# Altium schematic symbol library ConnectMedical.SchLib: 98 symbols
Pins are listed as number, name and electrical type; pins without a type are passive.

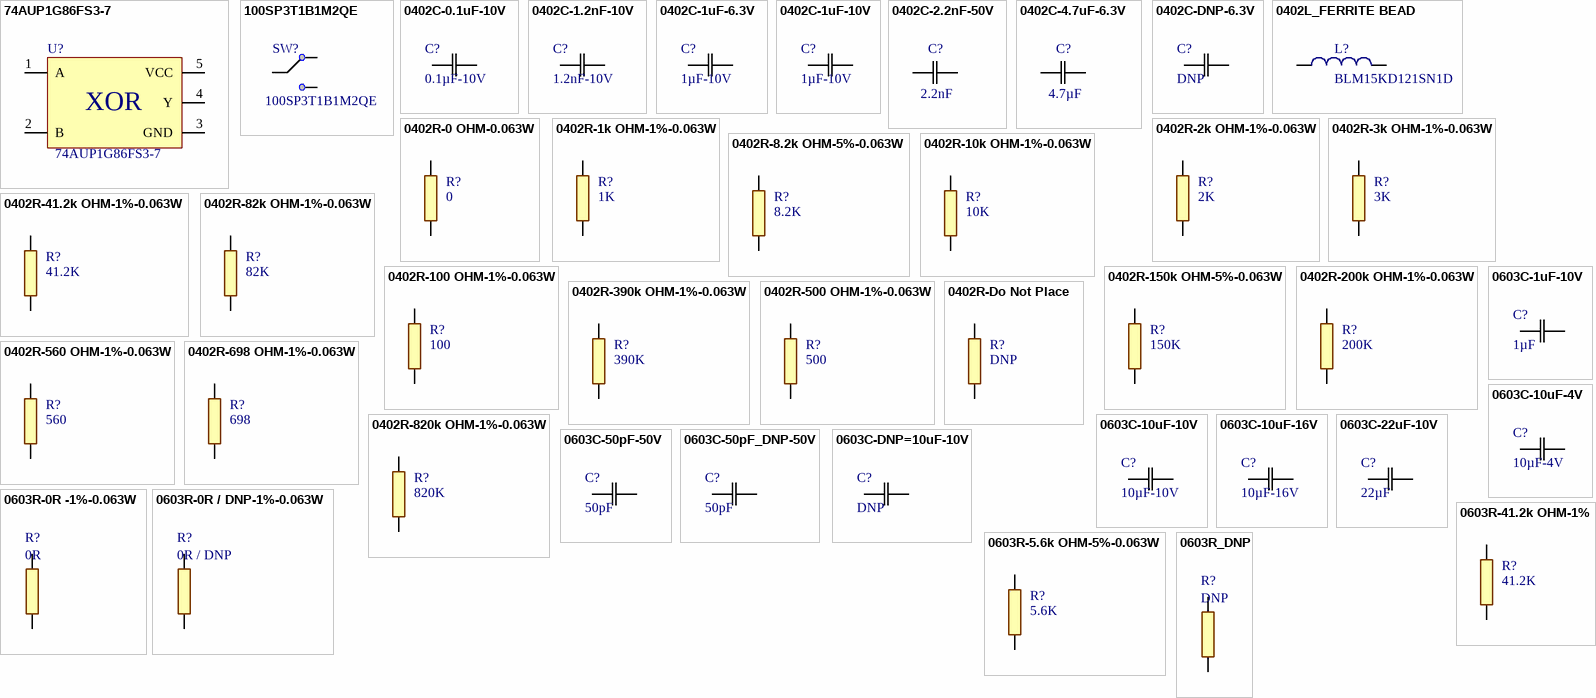
[diagram p0: symbols 74AUP1G86FS3-7 to 0603R_DNP]

## 74AUP1G86FS3-7
designator U?
IC GATE XOR 1CH 2-INP 4-X2DFN; Manufacturer: Diodes Incorporated; Voltage Supply: 0.8 V ~ 3.6 V; Current - Quiescent (Max): 500nA; Logic Level - Low: 0.7 V ~ 0.9 V; Logic Level - High: 1.6 V ~ 2 V; Max Propagation Delay @ V, Max C: 7.1ns @ 3.3V, 30pF; ComponentLink1URL: https://www.diodes.com/assets/Datasheets/74AUP1G86.pdf; ComponentLink1Description: Datasheet; Manufacturer Part Number: 74AUP1G86FS3-7; Digi-Key Part Number: 74AUP1G86FS3-7DICT-ND; Operating Temperature: -40°C ~ 125°C; Package / Case: 4-XFDFN Exposed Pad
footprint 74AUP1G86FS3-7 (IC GATE XOR 1CH, SON, 4-Leads, Body 0.80x0.80mm, Pitch 0.48mm, IPC High Density)
pins: 1 A (power), 2 B, 3 GND, 4 Y, 5 VCC
text: XOR

## 100SP3T1B1M2QE
designator SW?
SWITCH TOGGLE SPDT 5A 120V; Manufacturer: E-Switch; Actuator Type: Standard Round; Actuator Length: 10.41mm; ComponentLink1URL: https://www.e-switch.com/system/asset/product_line/data_sheet/129/100.pdf; ComponentLink1Description: Datasheet; Manufacturer Part Number: 100SP3T1B1M2QE; Operating Temperature: -30°C ~ 85°C; Digi-Key Part Number: 100SP3T1B1M2QE-ND; Termination Style: PC Pin; Panel Cutout Dimensions: 6.35mm; Circuit: SPDT
footprint SWITCH-100SP3T1B1M2QE (SWITCH TOGGLE SPDT)
pins: 1, 2, 3

## 0402C-0.1uF-10V
designator C?, comment 0.1µF-10V
0.1µF ±10% 10V X5R Ceramic Capacitor 0402; Manufacturer Part Number: CC0402KRX5R6BB104; Manufacturer: Yageo; Capacitance: 0.1µF; Digi-Key Part Number: 311-1336-1-ND; PackageReference: 0402; Temperature Coefficient: X5R; Tolerance: 10%; Voltage - Rated: 10V
footprint 0402C_HIGH_DENSITY
pins: 1, 2

## 0402C-1.2nF-10V
designator C?, comment 1.2nF-10V
1.2nF ±10% 10V U2J Ceramic Capacitor 0402; Manufacturer Part Number: GRM1557U1A122JA01D; Manufacturer: Murata Electronics North America; Tolerance: 5%; Capacitance: 1.2nF; Digi-Key Part Number: 490-6272-1-ND; PackageReference: 0402; Temperature Coefficient: U2J; Voltage - Rated: 10V
footprint 0402C_HIGH_DENSITY
pins: 1, 2

## 0402C-1uF-6.3V
designator C?, comment 1µF-10V
1µF ±10% 6.3V X5R Ceramic Capacitor 0402; Manufacturer Part Number: JMK105BJ105KV-F; Manufacturer: Taiyo Yuden; Capacitance: 1µF; Digi-Key Part Number: 587-1231-1-ND; PackageReference: 0402; Temperature Coefficient: X5R; Tolerance: 10%; Voltage - Rated: 6.3V
footprint 0402C-GENERIC (Chip Capacitor, 2-Leads, Body 1.00x0.50mm, IPC Medium Density)
pins: 1, 2

## 0402C-1uF-10V
designator C?, comment 1µF-10V
1µF ±10% 10V X5R Ceramic Capacitor 0402; Manufacturer Part Number: CC0402KRX5R6BB105; Manufacturer: Yageo; Capacitance: 1µF; Digi-Key Part Number: 311-1439-1-ND; PackageReference: 0402; Temperature Coefficient: X5R; Tolerance: 10%; Voltage - Rated: 10V
footprint 0402C_HIGH_DENSITY
pins: 1, 2

## 0402C-2.2nF-50V
designator C?, comment 2.2nF
2.2nF ±10% 50V X5R Ceramic Capacitor 0402; Manufacturer Part Number: GRM155R61H222KA01D; Manufacturer: Murata Electronics North America; Capacitance: 2.2nF; Digi-Key Part Number: 490-8257-1-ND; PackageReference: 0402; Temperature Coefficient: X5R; Tolerance: 10%; Voltage - Rated: 50V
footprint 0402C_HIGH_DENSITY
pins: 1, 2

## 0402C-4.7uF-6.3V
designator C?, comment 4.7µF
4.7µF ±10% 6.3V X5R Ceramic Capacitor 0402; Manufacturer Part Number: C1005X5R0J475K050BC; Manufacturer: TDK Corporation; Capacitance: 4.7µF; Digi-Key Part Number: 445-5947-1-ND; PackageReference: 0402; Temperature Coefficient: X5R; Tolerance: 10%; Voltage - Rated: 6.3V
footprint 0402C_HIGH_DENSITY
pins: 1, 2

## 0402C-DNP-6.3V
designator C?, comment DNP
Temperature Coefficient: X5R; Tolerance: 10%; Voltage - Rated: 6.3V; Capacitance: DNP; PackageReference: 0402
footprint 0402C-GENERIC (Chip Capacitor, 2-Leads, Body 1.00x0.50mm, IPC Medium Density)
pins: 1, 2

## 0402L_FERRITE BEAD
designator L?, comment BLM15KD121SN1D
FERRITE BEAD 120 OHM 0402 1LN; Manufacturer: Murata Electronics North America; Number of Lines: 1; Current Rating (Max): 1.5A; Impedance @ Frequency: 120 Ohm @ 100MHz; DC Resistance (DCR) (Max): 70 mOhm; Filter Type: Signal Line; Digi-Key Part Number: 490-15015-1-ND; Manufacturer Part Number: BLM15KD121SN1D; ComponentLink1Description: Datasheet; ComponentLink1URL: http://www.murata.com/en-us/products/productdata/8796740059166/ENFA0018.pdf; PackageReference: 0402 (1005 Metric)
footprint 0402L_High Speed (SMD EMI Suppression Ferrite  Bead, body 1.0mmx0.5mm)
pins: 1, 2

## 0402R-0 OHM-0.063W
designator R?, comment 0
RES SMD 0.0OHM JUMPER 1/16W 0402; Manufacturer: Yageo; Manufacturer Part Number: RC0402JR-070RL; Resistance (Ohms): 0 Ohm; Power: 0.063W; GENERIC_OK: YES; Digi-Key Part Number: 311-0.0JRCT-ND; PackageReference: 0402; Features: Moisture Resistant
footprint 0402R-GENERIC (0402 RES)
pins: 1, 2

## 0402R-1k OHM-1%-0.063W
designator R?, comment 1K
RES SMD 1kOHM 1% 1/16W 0402; Power: 0.063W; GENERIC_OK: YES; Resistance (Ohms): 1KOhm; Tolerance: 1%; PackageReference: 0402
footprint 0402R-GENERIC (0402 RES)
pins: 1, 2

## 0402R-2k OHM-1%-0.063W
designator R?, comment 2K
RES SMD 2kOHM 1% 1/16W 0402; Manufacturer: Yageo; Manufacturer Part Number: RC0402FR-072KL; Power: 0.063W; GENERIC_OK: YES; Digi-Key Part Number: 311-2KLRCT-ND; Resistance (Ohms): 2KOhm; Tolerance: 1%; PackageReference: 0402; Features: Moisture Resistant
footprint 0402R-GENERIC (0402 RES)
pins: 1, 2

## 0402R-3k OHM-1%-0.063W
designator R?, comment 3K
RES SMD 3kOHM 1% 1/16W 0402; Power: 0.063W; GENERIC_OK: YES; Resistance (Ohms): 3KOhm; Tolerance: 1%; PackageReference: 0402; Features: Moisture Resistant
footprint 0402R-GENERIC (0402 RES)
pins: 1, 2

## 0402R-8.2k OHM-5%-0.063W
designator R?, comment 8.2K
RES SMD 8.2kOHM 5% 1/16W 0402; Manufacturer: Yageo; Manufacturer Part Number: RC0402JR-078K2L; Power: 0.063W; GENERIC_OK: YES; Digi-Key Part Number: 311-8.2KJRCT-ND; Resistance (Ohms): 8.2KOhm; Tolerance: 5%; PackageReference: 0402
footprint 0402R-GENERIC (0402 RES)
pins: 1, 2

## 0402R-10k OHM-1%-0.063W
designator R?, comment 10K
RES SMD 10kOHM 1% 1/16W 0402; Manufacturer: Yageo; Manufacturer Part Number: RC0402FR-0710KL; Power: 0.063W; GENERIC_OK: YES; Digi-Key Part Number: 311-10.0KLRCT-ND; Resistance (Ohms): 10KOhm; Tolerance: 1%; PackageReference: 0402; Features: Moisture Resistant
footprint 0402R-GENERIC (0402 RES)
pins: 1, 2

## 0402R-41.2k OHM-1%-0.063W
designator R?, comment 41.2K
RES SMD 41.2kOHM 1% 1/16W 0402; Manufacturer: Yageo; Manufacturer Part Number: RC0402FR-0741K2L; Power: 0.063W; GENERIC_OK: YES; Digi-Key Part Number: YAG3155CT-ND; Resistance (Ohms): 41.2KOhm; Tolerance: 1%; PackageReference: 0402
footprint 0402R-GENERIC (0402 RES)
pins: 1, 2

## 0402R-82k OHM-1%-0.063W
designator R?, comment 82K
RES SMD 82kOHM 1% 1/16W 0402; Manufacturer: Yageo; Manufacturer Part Number: RC0402FR-0782KL; Power: 0.063W; GENERIC_OK: YES; Digi-Key Part Number: 311-82.0KLRCT-ND; Resistance (Ohms): 82KOhm; Tolerance: 1%; PackageReference: 0402
footprint 0402R-GENERIC (0402 RES)
pins: 1, 2

## 0402R-100 OHM-1%-0.063W
designator R?, comment 100
RES SMD 100OHM 1% 1/16W 0402; Manufacturer: Yageo; Manufacturer Part Number: RC0402FR-07100RL; Power: 0.063W; GENERIC_OK: YES; Digi-Key Part Number: 311-100LRCT-ND; Resistance (Ohms): 100Ohm; Tolerance: 1%; PackageReference: 0402; Features: Moisture Resistant
footprint 0402R-GENERIC (0402 RES)
pins: 1, 2

## 0402R-150k OHM-5%-0.063W
designator R?, comment 150K
RES SMD 150kOHM 5% 1/16W 0402; Manufacturer: Yageo; Manufacturer Part Number: RC0402JR-07150KL; Power: 0.063W; GENERIC_OK: YES; Digi-Key Part Number: 311-150KJRCT-ND; Resistance (Ohms): 150KOhm; Tolerance: 5%; PackageReference: 0402; Features: Moisture Resistant
footprint 0402R-GENERIC (0402 RES)
pins: 1, 2

## 0402R-200k OHM-1%-0.063W
designator R?, comment 200K
RES SMD 200kOHM 1% 1/16W 0402; Manufacturer: Yageo; Manufacturer Part Number: AC0402FR-07200KL; Power: 0.063W; GENERIC_OK: YES; Digi-Key Part Number: YAG3452CT-ND; Resistance (Ohms): 200KOhm; Tolerance: 1%; PackageReference: 0402; Features: Moisture Resistant
footprint 0402R-GENERIC (0402 RES)
pins: 1, 2

## 0402R-390k OHM-1%-0.063W
designator R?, comment 390K
RES SMD 390kOHM 1% 1/16W 0402; Manufacturer: Yageo; Manufacturer Part Number: RC0402FR-07390KL; Power: 0.063W; GENERIC_OK: YES; Digi-Key Part Number: YAG3143CT-ND; Resistance (Ohms): 390KOhm; Tolerance: 1%; PackageReference: 0402; Features: Moisture Resistant
footprint 0402R-GENERIC (0402 RES)
pins: 1, 2

## 0402R-500 OHM-1%-0.063W
designator R?, comment 500
RES SMD 100OHM 1% 1/16W 0402; Resistance (Ohms): 500Ohm; Power: 0.063W; GENERIC_OK: YES; Tolerance: 1%; PackageReference: 0402
footprint 0402R-GENERIC (0402 RES)
pins: 1, 2

## 0402R-560 OHM-1%-0.063W
designator R?, comment 560
RES SMD 560OHM 1% 1/16W 0402; Manufacturer: Samsung Electro-Mechanics America, Inc.; Manufacturer Part Number: RC1005F561CS; Power: 0.063W; GENERIC_OK: YES; Digi-Key Part Number: 1276-3473-1-ND; Resistance (Ohms): 560Ohm; Tolerance: 1%; PackageReference: 0402; Features: Moisture Resistant
footprint 0402R-GENERIC (0402 RES)
pins: 1, 2

## 0402R-698 OHM-1%-0.063W
designator R?, comment 698
RES SMD 698 OHM 1% 1/16W 0402; Manufacturer: Yageo; Manufacturer Part Number: RC0402FR-07698RL; Resistance (Ohms): 698Ohm; Power: 0.063W; GENERIC_OK: YES; Digi-Key Part Number: YAG3215CT-ND; Tolerance: 1%; PackageReference: 0402; Features: Moisture Resistant
footprint 0402R-GENERIC (0402 RES)
pins: 1, 2

## 0402R-820k OHM-1%-0.063W
designator R?, comment 820K
RES SMD 820kOHM 1% 1/16W 0402; Manufacturer: Yageo; Manufacturer Part Number: RC0402FR-07820KL; Power: 0.063W; GENERIC_OK: YES; Digi-Key Part Number: YAG3240CT-ND; Resistance (Ohms): 820KOhm; Tolerance: 1%; PackageReference: 0402
footprint 0402R-GENERIC (0402 RES)
pins: 1, 2

## 0402R-Do Not Place
designator R?, comment DNP
footprint 0402R-GENERIC (0402 RES)
pins: 1, 2

## 0603C-1uF-10V
designator C?, comment 1µF
1µF ±10% 10V X7R Ceramic Capacitor 0603; Manufacturer Part Number: CL10B105KP8NNNC; Manufacturer: Samsung Electro-Mechanics America, Inc.; Capacitance: 1µF; Digi-Key Part Number: 1276-1946-1-ND; PackageReference: 0603; Temperature Coefficient: X7R; Tolerance: 10%; Voltage - Rated: 10V
footprint 0603C-GENERIC
pins: 1, 2

## 0603C-10uF-4V
designator C?, comment 10µF-4V
10µF ±10% 4V X6S Ceramic Capacitor 0603; Manufacturer Part Number: GRM188C80G106KE47D; Manufacturer: Murata Electronics North America; Capacitance: 10µF; Digi-Key Part Number: 490-10469-1-ND; PackageReference: 0603; Temperature Coefficient: X6S; Tolerance: 10%; Voltage - Rated: 4V
footprint 0603C-GENERIC
pins: 1, 2

## 0603C-10uF-10V
designator C?, comment 10µF-10V
10µF ±10% 10V X5R Ceramic Capacitor 0603; Manufacturer Part Number: GRM188R61A106KE69D; Manufacturer: Murata Electronics North America; Capacitance: 10µF; Digi-Key Part Number: 490-10474-1-ND; PackageReference: 0603; Temperature Coefficient: X5R; Tolerance: 10%; Voltage - Rated: 10V
footprint 0603C-GENERIC
pins: 1, 2

## 0603C-10uF-16V
designator C?, comment 10µF-16V
16µF ±10% 16V X5R Ceramic Capacitor 0603; Manufacturer Part Number: GRT188R61C106KE13D; Manufacturer: Murata Electronics North America; Capacitance: 10µF; Digi-Key Part Number: 490-12317-1-ND; PackageReference: 0603; Temperature Coefficient: X5R; Tolerance: 10%; Voltage - Rated: 16V; ClassName: 3D_IGNORE
footprint 0603C_HIGH_DENSITY
pins: 1, 2

## 0603C-22uF-10V
designator C?, comment 22µF
22µF ±20% 10V Ceramic Capacitor X5R 0603; Manufacturer Part Number: C1608X5R1A226M080AC; Manufacturer: TDK Corporation; Capacitance: 22µF; Digi-Key Part Number: 445-9077-2-ND; PackageReference: 0603; Temperature Coefficient: X5R; Tolerance: 20%; Voltage - Rated: 10V
footprint 0603C-GENERIC
pins: 1, 2

## 0603C-50pF-50V
designator C?, comment 50pF
CAP CER 50PF 50V NP0 0603; Manufacturer Part Number: 06035A500JAT2A; Manufacturer: AVX Corporation; Temperature Coefficient: C0G, NP0; Tolerance: ±5%; Capacitance: 50pF; Digi-Key Part Number: 478-10324-1-ND; PackageReference: 0603; Voltage - Rated: 50V
footprint 0603C_HIGH_DENSITY
pins: 1, 2

## 0603C-50pF_DNP-50V
designator C?, comment 50pF
DNP; Manufacturer Part Number: 06035A500JAT2A; Manufacturer: AVX Corporation; Temperature Coefficient: C0G, NP0; Tolerance: ±5%; Voltage - Rated: 50V; Capacitance: 50pF; Digi-Key Part Number: 478-10324-1-ND; PackageReference: 0603
footprint 0603C_HIGH_DENSITY
pins: 1, 2

## 0603C-DNP=10uF-10V
designator C?, comment DNP
Manufacturer Part Number: GRM188R61A106KE69D; Manufacturer: Murata Electronics North America; Capacitance: 10µF; Temperature Coefficient: X5R; Tolerance: 10%; Voltage - Rated: 10V; Digi-Key Part Number: 490-10474-1-ND; PackageReference: 0603
footprint 0603C-GENERIC
pins: 1, 2

## 0603R-0R -1%-0.063W
designator R?, comment 0R
RES SMD 0 OHM 1% 1/10W 0603; Power: 0.063W; GENERIC_OK: YES; Resistance (Ohms): 0R; PackageReference: 0603
footprint 0603R-GENRIC (0603 RES)
pins: 1, 2

## 0603R-0R / DNP-1%-0.063W
designator R?, comment 0R / DNP
RES SMD 0 OHM 1% 1/10W 0402; Manufacturer: Vishay Dale; Manufacturer Part Number: CRCW06030000Z0EAHP; Power: 0.063W; GENERIC_OK: YES; Digi-Key Part Number: 541-0.0SBTR-ND; Resistance (Ohms): 0R / DNP; PackageReference: 0603
footprint 0603R-GENRIC (0603 RES)
pins: 1, 2

## 0603R-5.6k OHM-5%-0.063W
designator R?, comment 5.6K
RES SMD 5.6kOHM 5% 1/16W 0603; Manufacturer: Yageo; GENERIC_OK: YES; Resistance (Ohms): 5.6KOhm; Tolerance: 5%; PackageReference: 0603
footprint 0603R-GENRIC (0603 RES)
pins: 1, 2

## 0603R-41.2k OHM-1%
designator R?, comment 41.2K
RES SMD 41.2kOHM 1% 0603; Manufacturer: Yageo; GENERIC_OK: YES; Resistance (Ohms): 41.2KOhm; Tolerance: 1%; PackageReference: 0402
footprint 0603R-GENRIC (0603 RES)
pins: 1, 2

## 0603R_DNP
designator R?, comment DNP
RES 0603 DNP; GENERIC_OK: YES; PackageReference: 0603
footprint 0603R-GENRIC (0603 RES)
pins: 1, 2

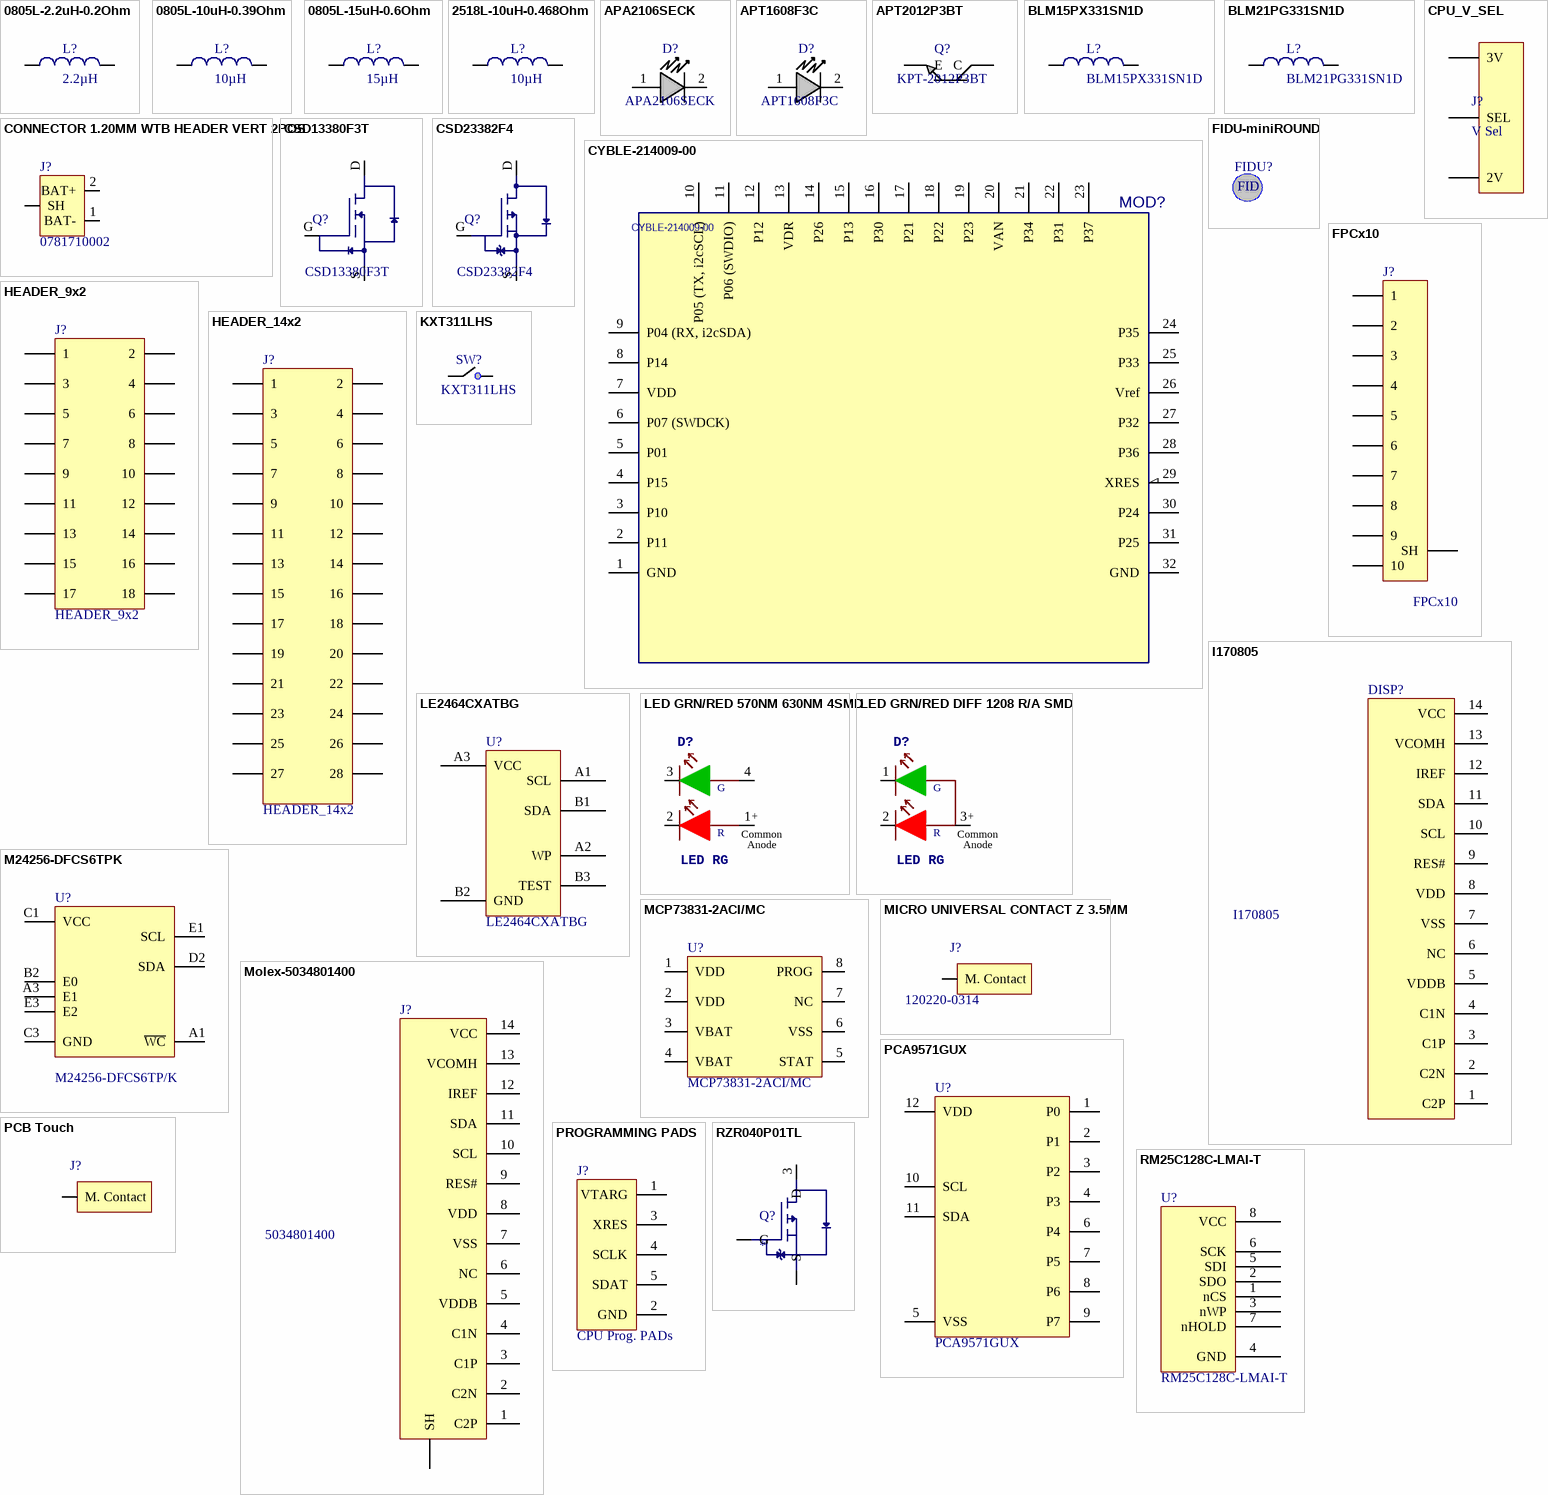
[diagram p1: symbols 0805L-2.2uH-0.2Ohm to RZR040P01TL]

## 0805L-2.2uH-0.2Ohm
designator L?, comment 2.2µH  (graphical)
FIXED IND 2.2UH 600MA 0.2OHM SMD; Manufacturer: TDK Corporation; Manufacturer Part Number: MLZ2012M2R2HTD25; Number of Lines: 1; Tolerance: 20%; Digi-Key Part Number: 445-17077-1-ND; Impedance: 2.2µH; Current Rating (Max): 600mA; ComponentLink1Description: Datasheet; ComponentLink1URL: https://www.digikey.com/product-detail/en/tdk-corporation/MLZ2012M2R2HTD25/445-17077-2-ND/4743205; PackageReference: 0805
footprint 0805L_HIGH_DENSITY
pins: 1, 2

## 0805L-10uH-0.39Ohm
designator L?, comment 10µH
FIXED IND 10UH 500MA 300 MOHM; Manufacturer: TDK Corporation; Manufacturer Part Number: MLZ2012N100LT000; Number of Lines: 1; Current Rating (Max): 350mA; Tolerance: 20%; DCRDC Resistance (DCR): 390 mOhm Max; Digi-Key Part Number: 445-6762-1-ND; Impedance: 10µH; ComponentLink1Description: Datasheet; ComponentLink1URL: https://product.tdk.com/info/en/catalog/datasheets/inductor_commercial_decoupling_mlz2012_en.pdf; PackageReference: 0805
footprint 0805L_HIGH_DENSITY
pins: 1, 2

## 0805L-15uH-0.6Ohm
designator L?, comment 15µH
FIXED IND 15UH 350MA 0.6 OHM SMD; Manufacturer: TDK Corporation; Manufacturer Part Number: MLZ2012N150LT000; Number of Lines: 1; Tolerance: 20%; DCRDC Resistance (DCR): 611 mOhm Max; Digi-Key Part Number: 445-6763-1-ND; Impedance: 15µH; Current Rating (Max): 350mA; ComponentLink1Description: Datasheet; ComponentLink1URL: https://www.digikey.com/product-detail/en/tdk-corporation/MLZ2012N150LT000/445-6763-2-ND/2523501; PackageReference: 0805
footprint 0805L_HIGH_DENSITY
pins: 1, 2

## 2518L-10uH-0.468Ohm
designator L?, comment 10µH
FIXED IND 10UH 680MA 468 MOHM; Manufacturer: Taiyo Yuden; Manufacturer Part Number: CBC2518T100M; Tolerance: 20%; DCRDC Resistance (DCR): 468 mOhm Max; Digi-Key Part Number: 587-1613-1-ND; Impedance: 10µH; Current Rating (Max): 680mA; ComponentLink1Description: Datasheet; ComponentLink1URL: http://www.yuden.co.jp/productdata/catalog/en/wound02_e.pdf; PackageReference: 1007 (2518 Metric)
footprint 2518L_HIGH_DENSITY (Chip Inductor, 2-Leads, Body 2.50x1.80mm, IPC High Density)
pins: 1, 2

## APA2106SECK
designator D?
LED ORANGE CLEAR 2SMD R/A; Manufacturer: Kingbright; Wavelength: 610nm; Current - Test: 20mA; Voltage - Forward (Vf) (Typ): 2.1V; Viewing Angle: 120°; Manufacturer Part Number: APA2106SECK; Mounting Type: Surface Mount; ComponentLink1Description: Datasheet; ComponentLink1URL: http://www.kingbrightusa.com/images/catalog/SPEC/APA2106SECK.pdf; Digi-Key Part Number: 754-1059-1-ND; Color: Orange; Size / Dimension: 2.10mm L x 1.00mm W
footprint APA2106SECK (LED_APA2106SECK)
pins: 1 A "Anode", 2 K "Cathode"

## APT1608F3C
designator D?
0603 INFRARED DIODE; Manufacturer: Kingbright; Wavelength: 940nm; Type: Infrared (IR); Current - DC Forward (If) (Max): 50mA; Radiant Intensity (Ie) Min @ If: 1.2mW/sr @ 20mA; Voltage - Forward (Vf) (Typ): 1.2V; Viewing Angle: 120°; Supplier 1: Digi-Key; Supplier Part Number 1: 754-1433-1-ND; Manufacturer Part Number: APT1608F3C; PackageReference: 0603; Mounting Type: Surface Mount; Operating Temperature: -40°C ~ 85°C (TA); ComponentLink1Description: Datasheet; ComponentLink1URL: http://www.kingbrightusa.com/images/catalog/SPEC/APT1608F3C.pdf; Digi-Key Part Number: 754-1433-1-ND; ClassName: 3D_EXPORT
footprint APT1608F3C (EMITTER IR 940NM 50MA 603)
pins: 1 A "Anode", 2 K "Cathode"

## APT2012P3BT
designator Q?, comment KPT-2012P3BT
0805 PHOTOTRANSISTOR; Manufacturer: Kingbright; Voltage - Collector Emitter Breakdown (Max): 30V; Current - Collector (Ic) (Max): 1mA; Current - Dark (Id) (Max): 100nA; Power - Max: 100mW; Supplier 1: Digi-Key; Supplier Part Number 1: 754-1436-1-ND; ComponentLink1Description: Datasheet; ComponentLink1URL: https://www.kingbrightusa.com/images/catalog/spec/APT2012P3BT.pdf; Manufacturer Part Number: KPT-2012P3BT; PackageReference: 0805; Digi-Key Part Number: 754-1436-1-ND; ClassName: 3D_EXPORT
footprint APT2012P3BT
pins: 1 E "Emitter", 2 C "Collector"

## BLM15PX331SN1D
designator L?
0402 Ferrite Bead 330Ohm@100MHz; Manufacturer: Murata Electronics North America; Number of Lines: 1; Current Rating (Max): 1.2A; Filter Type: Power Line; Tolerance: ±5%; DC Resistance (DCR) (Max): 150 mOhm; Digi-Key Part Number: 490-11022-1-ND; Manufacturer Part Number: BLM15PX331SN1D; ComponentLink1Description: Datasheet; ComponentLink1URL: http://www.murata.com/en-global/products/productdata/8796733767710/S0580E.pdf; PackageReference: 0402 (1005 Metric); Impedance @ FRequency: 330 Ohm @ 100MHz
footprint 0402L_High Speed (SMD EMI Suppression Ferrite  Bead, body 1.0mmx0.5mm)
pins: 1, 2

## BLM21PG331SN1D
designator L?
0805 Ferrite Bead 330Ohm@100MHz; Manufacturer: Murata Electronics North America; Number of Lines: 1; Current Rating (Max): 1.5A; Filter Type: Power Line; DC Resistance (DCR) (Max): 70 mOhm; Digi-Key Part Number: 490-5988-1-ND; Manufacturer Part Number: BLM21PG331SN1D; ComponentLink1Description: Datasheet; ComponentLink1URL: http://www.murata.com/en-global/products/productdata/8796733767710/S0580E.pdf; PackageReference: 0805 (2012 Metric); Impedance @ FRequency: 330 Ohm @ 100MHz
footprint 0805L_HIGH_DENSITY - Hybrid 0402
pins: 1, 2

## CONNECTOR 1.20MM WTB HEADER VERT 2POS
designator J?, comment 0781710002
1.20MM WTB HEADER VERT 2POS; Manufacturer: Molex, LLC; ComponentLink1URL: http://www.molex.com/pdm_docs/sd/781710002_sd.pdf; ComponentLink1Description: Datasheet; Manufacturer Part Number: 0781710002; Mounting Type: Surface Mount; Digi-Key Part Number: WM4459CT-ND; ClassName: 3D_EXPORT
footprint PAD 0781710002 (PAD 1.20MM WTB HEADER VERT 2POS)
pins: 1 BAT-, 2 BAT+, 3 SH

## CPU_V_SEL
designator J?, comment V Sel
footprint Pin Header 3 x 1 - 2.54mm (Pin Header 3 X 1 TH 2.54mm Pitch)
pins: 1 3V (power), 2 SEL (power), 3 2V (power)

## CSD13380F3T
designator Q?
12V N-CHANNEL FEMTOFET MOSFET; Manufacturer: Texas Instruments; Digi-Key Part Number: CSD13380F3T; Manufacturer Part Number: CSD13380F3T; FET Type: N-Channel; Package / Case: 3-XFDFN; ComponentLink1Description: Datasheet; ComponentLink1URL: http://www.ti.com/lit/ds/symlink/csd13380f3.pdf
footprint CSD13380F3-DFN40P69X35-3L (DFN, 3-Leads, Body 0.60x0.69mm, Pitch 0.40mm, IPC High Density)
pins: D 3, G 1, S 2

## CSD23382F4
designator Q?
MOSFET P-CH 12V 22A 3PICOSTAR; Manufacturer: Texas Instruments; FET Type: P-Channel; Digi-Key Part Number: 296-40003-1-ND; Manufacturer Part Number: CSD23382F4; Package / Case: 3-XFDFN; ComponentLink1Description: Datasheet; ComponentLink1URL: http://www.ti.com/lit/ds/symlink/csd23382f4.pdf
footprint CSD23382F4 -DFN65P100X35-3L (DFN, 3-Leads, Body 0.60x1.00mm, Pitch 0.65mm, IPC High Density)
pins: D 3, G 1, S 2

## CYBLE-214009-00
designator MOD?
BLE PSoC Module 4.1; Manufacturer: Cypress Semiconductor Corp; Protocol: Bluetooth v4.1; Frequency: 2.4GHz; Data Rate: 1Mbps; Power - Output: 3dBm; Sensitivity: -91dBm; Voltage - Supply: 1.7 V ~ 5.5 V; Current - Receiving: 16.4mA; Current - Transmitting: 15.6mA; Supplier 1: Digi-Key; Supplier Part Number 1: 428-3809-ND; ComponentLink1URL: http://www.cypress.com/file/223701/download; ComponentLink1Description: Datasheet; Manufacturer Part Number: CYBLE-214009-00; Digi-Key Part Number: 428-3809-ND; ClassName: 3D_EXPORT
footprint CYBLE-014008-00
footprint CYBLE-014008-00_MinKeepOut
pins: 1 GND (power), 2 P11 "GPIO-SCB1(SPI_SS1)", 3 P10 "GPIO", 4 P15 "GPIO-SCB0 (TX, SPI_MISO, I2C_SCL)", 5 P01 "GPIO-SCB1(TX, SPI_MISO, I2C_SCL)", 6 P07 (SWDCK) "GPIO-SWDCLK", 7 VDD (power) "Digital Power (1.71 to 5.5V)", 8 P14 "GPIO-SCB0 (RX, SPI_MOSI, I2C_SDA)", 9 P04 (RX, i2cSDA) "GPIO-SCB0(RX, SPI_MOSI, I2C_SDA)", 10 P05 (TX, i2cSCL) "GPIO-SCB0 (TX, SPI_MISO, I2C_SCL)", 11 P06 (SWDIO) "GPIO-SWDIO", 12 P12 "GPIO-SCB1(SPI_SS2)", 13 VDR (power) "Radio Power (1.9 to 5.5V)", 14 P26 "GPIO-", 15 P13 "GPIO-SCB1(SPI_SS3)", 16 P30 "GPIO-SCB0(RX, I2C_SDA)", 17 P21 "GPIO-SCB0(SPI_SS2)", 18 P22 "GPIO-SCB0(SPI_SS3)", 19 P23 "GPIO", 20 VAN (power) "Analog Power (1.71 to 5.5V)", 21 P34 "GPIO-SCB1(RX, I2C_SDA)", 22 P31 "GPIO-SCB0(TX, I2C_SCL)", 23 P37 "GPIO-SCB1(CTS)", 24 P35 "GPIO-SCB1(TX, I2C_SCL)", 25 P33 "GPIO-SCB0(CTS)", 26 Vref (power) "Reference Input Volyage (1.9 to 5.5V)", 27 P32 "GPIO-SCB0(RTS)", 28 P36 "GPIO-SCB1(RTS)", 29 XRES "External Reset Active Low", 30 P24 "GPIO", 31 P25 "GPIO", 32 GND (power)

## FIDU-miniROUND
designator FIDU?  (value not drawn)  (no BOM)
ClassName: FIDU
footprint FIDU-MINI-ROUND
text: FID

## FPCx10
designator J?
CONN FFC FPC 10POS 0.50MM R/A; Manufacturer Part Number: 5034801000; Manufacturer: Molex, LLC; ComponentLink1URL: http://www.molex.com/pdm_docs/sd/5034801000_sd.pdf; ComponentLink1Description: Datasheet; Mounting Type: SMD; Digi-Key Part Number: WM1389CT-ND
footprint FPCx10-5034801000 (CONN FFC FPC 10POS 0.50MM R/A)
pins: 1, 2, 3, 4, 5, 6, 7, 8, 9, 10, SH

## HEADER_9x2
designator J?
18 Positions Header Connector 0.100" (2.54mm) Through Hole Gold or Gold; Manufacturer Part Number: 77313-818-18LF; Manufacturer: Amphenol FCI; ComponentLink1URL: http://portal.fciconnect.com/Comergent//fci/drawing/77313.pdf; ComponentLink1Description: Datasheet; Mounting Type: Through Hole; Through Hole: 0.100" (2.54mm); Digi-Key Part Number: 609-5140-ND
footprint Pin Header 9 x 2 - 2.54mm (Pin Header 9 x 2 TH 2.54mm Pitch)
pins: 1, 2, 3, 4, 5, 6, 7, 8, 9, 10, 11, 12, 13, 14, 15, 16, 17, 18

## HEADER_14x2
designator J?
CONN HEADER VERT DUAL 28POS 2.54; Manufacturer Part Number: 61302821121; Manufacturer: Wurth Electronics Inc.; Through Hole: 0.100" (2.54mm); ComponentLink1URL: http://katalog.we-online.de/em/datasheet/6130xx21121.pdf; ComponentLink1Description: Datasheet; Mounting Type: Through Hole; Digi-Key Part Number: 732-5305-ND
footprint Pin Header 14 x 2 - 2.54mm (Pin Header 14 x 2 TH 2.54mm Pitch)
pins: 1, 2, 3, 4, 5, 6, 7, 8, 9, 10, 11, 12, 13, 14, 15, 16, 17, 18, 19, 20, 21, 22, 23, 24, 25, 26, 27, 28

## I170805
designator DISP?  (no BOM)
Connection to OLED Display
footprint I170805 (OLED Display using I2C)
pins: 1 C2P, 2 C2N, 3 C1P, 4 C1N, 5 VDDB, 6 NC, 7 VSS (power), 8 VDD, 9 RES#, 10 SCL, 11 SDA, 12 IREF, 13 VCOMH, 14 VCC

## KXT311LHS
designator SW?
SPST Tactile Switch; Manufacturer: C&K; Contact Rating @ Voltage: 0.05A @ 12VDC; Actuator Height off PCB, Vertical: 0.60mm; Operating Force: 100gf; Mechanical Life: 300,000 Cycles; Supplier 1: Digi-Key; Supplier Part Number 1: CKN10777TR-ND; ComponentLink1URL: http://www.ckswitches.com/media/1465/kxt3.pdf; ComponentLink1Description: Datasheet; Manufacturer Part Number: KXT 311 LHS; Mounting Type: Surface Mount; Digi-Key Part Number: CKN10777CT-ND; ClassName: 3D_EXPORT
footprint KXT311LHS_B (SWITCH TACTILE SPST-NO 0.05A 12V)
pins: 1, 2

## LE2464CXATBG
designator U?
IC EEPROM 64KBIT 400KHZ 6WLCSP; Manufacturer: ON Semiconductor; Memory Interface: I²C; Voltage - Supply: 1.7 V ~ 3.6 V; Memory Type: Non-Volatile; Write Cycle Time - Word, Page: 5ms; ComponentLink1URL: http://www.onsemi.cn/PowerSolutions/document/LE2464C-D.PDF; ComponentLink1Description: Datasheet; Manufacturer Part Number: LE2464CXATBG; PackageReference: 6-XFBGA, WLCSP; Memory Forma: EEPROM; Clock Frequency: 400kHz; Digi-Key Part Number: LE2464CXATBGOSDKR-ND
footprint LE2464C-WLCSP6 (BGA, 6-Leads, Body 1.20x0.80mmx0.33mm, Pitch 0.40mm)
pins: A1 SCL, A2 WP, A3 VCC, B1 SDA, B2 GND, B3 TEST

## LED GRN/RED 570NM 630NM 4SMD
designator D?, comment LED RG
LED GRN/RED 570NM 630NM 4SMD; Manufacturer: Kingbright; Manufacturer Part Number: APBD3224LSURKCGKC; Color: Red, Green; Voltage - Forward (Vf) (Typ): 1.9V Green, 1.8V Red; Current - Test: 2mA Green, 2mA Red; Wavelength - Peak: 574nm Green, 645nm Red; Millicandela Rating: 30mcd Green, 30mcd Red; ComponentLink1Description: Datasheet; ComponentLink1URL: http://www.kingbrightusa.com/images/catalog/SPEC/APBD3224LSURKCGKC.pdf; Digi-Key Part Number: 754-1962-1-ND
footprint LED GRN/RED 570NM 630NM 4SMD (LED_APBD3224LSURKCGKC)
pins: 1, 2 G, 3, 4
text: +; R; Common; Anode

## LED GRN/RED DIFF 1208 R/A SMD
designator D?, comment LED RG
LED GRN/RED DIFF 1208 R/A SMD; Manufacturer: Stanley Electric Co; Manufacturer Part Number: BRPY1211F-TR; Color: Red, Green; Voltage - Forward (Vf) (Typ): 2.1V Green, 1.7V Red; Current - Test: 20mA Green, 20mA Red; Wavelength - Peak: 570nm Green, 660nm Red; Millicandela Rating: 8.8mcd Green, 17.6mcd Red; ComponentLink1Description: Datasheet; ComponentLink1URL: https://media.digikey.com/pdf/Data%20Sheets/Stanley%20Electric%20PDFs/1211F_Series.pdf; Digi-Key Part Number: 404-1089-1-ND; ClassName: 3D_EXPORT
footprint LED GRN/RED DIFF 1208 R/A SMD (LED_BRPY1211F-TR)
pins: 1 R, 2 G, 3
text: +; Common; Anode

## M24256-DFCS6TPK
designator U?, comment M24256-DFCS6TP/K
IC EEPROM 256KBIT 1MHZ 8WLCSP; Manufacturer: STMicroelectronics; Memory Interface: I²C; Voltage - Supply: 1.7 V ~ 5.5 V; Memory Type: Non-Volatile; Write Cycle Time - Word, Page: 5ms; ComponentLink1URL: http://www.st.com/content/ccc/resource/technical/document/datasheet/b6/38/3e/3f/fe/a6/48/c2/CD00001891.pdf/files/CD00001891.pdf/jcr:content/translations/en.CD00001891.pdf; ComponentLink1Description: Dataseet; Manufacturer Part Number: M24256-DFCS6TP/K; PackageReference: 8-WFBGA; Memory Forma: EEPROM; Clock Frequency: 1MHz; Digi-Key Part Number: 497-13611-1-ND
footprint BGAS8_M24256-DFCS6_1 (BGA, 8-Leads, Body 1.37x1.28mmx0.58mm, Pitch 0.40mm)
pins: A1 ~{WC}, A3 E1, B2 E0, C1 VCC, C3 GND, D2 SDA, E1 SCL, E3 E2

## MCP73831-2ACI/MC
designator U?
IC Li-Ion Charger Controller; Manufacturer: Microchip Technology; Battery Chemistry: Lithium-Ion/Polymer; Battery Pack Voltage: 4.2V; Charge Current - Max: 500mA; Current - Charging: Constant - Programmable; Supplier 1: Digi-Key; Supplier Part Number 1: MCP73831-2ACI/MC-ND; ComponentLink1URL: http://ww1.microchip.com/downloads/en/DeviceDoc/20001984g.pdf; ComponentLink1Description: Datasheet; Manufacturer Part Number: MCP73831-2ACI/MC; PackageReference: 8-VFDFN Exposed Pad; Digi-Key Part Number: MCP73831-2ACI/MC-ND
footprint MCP73831 (IC CONTROLLER LI-ION 4.2V 8DFN)
pins: 1 VDD (power), 2 VDD (power), 3 VBAT, 4 VBAT, 5 STAT, 6 VSS, 7 NC, 8 PROG

## MICRO UNIVERSAL CONTACT Z 3.5MM
designator J?, comment 120220-0314
MICRO UNIVERSAL CONTACT Z 3.5MM; Manufacturer: ITT Cannon, LLC; ComponentLink1URL: https://media.digikey.com/pdf/Data%20Sheets/ITT%20PDFs/120220-0314_Dwg.pdf; ComponentLink1Description: Datasheet; Manufacturer Part Number: 120220-0314; Mounting Type: Surface Mount; Digi-Key Part Number: 1003-2383-1-ND; ClassName: 3D_EXPORT
footprint PAD 1.0x1.95mm (MICRO UNIVERSAL CONTACT Z 3.5MM)
pins: 1 M. Contact

## Molex-5034801400
designator J?, comment 5034801400  (no BOM)
Connector molex to OLED Display; Manufacturer: Molex, LLC; Number of Positions: 14; Pitch: 0.020" (0.50mm); Flat Flex Type: FFC, FPC; FFC, FCB Thickness: 0.30mm; Mating Cycles: 10; Manufacturer Part Number: 5034801400; Digi-Key Part Number: WM1442CT-ND; ComponentLink1Description: Datasheet; ComponentLink1URL: http://www.molex.com/pdm_docs/sd/5034801400_sd.pdf; Contact Finish: Gold; ClassName: 3D_EXPORT
footprint 5034801400 (Pads for Molex connector to OLED Display using I2C)
pins: 1 C2P, 2 C2N, 3 C1P, 4 C1N, 5 VDDB, 6 NC, 7 VSS (power), 8 VDD, 9 RES#, 10 SCL, 11 SDA, 12 IREF, 13 VCOMH, 14 VCC, SH

## PCA9571GUX
designator U?
IC I/O EXPANDER I2C 12XQFN; Manufacturer: NXP USA Inc.; Voltage - Supply: 1.1 V ~ 3.6 V; Clock Frequency: 1MHz; Interface: I²C; Output Type: Push-Pull; ComponentLink1URL: http://www.nxp.com/docs/en/data-sheet/PCA9571.pdf; ComponentLink1Description: Datasheet; Manufacturer Part Number: PCA9571GUX; PackageReference: 12-XFQFN; Digi-Key Part Number: 568-12400-1-ND
footprint PCA9571-XQFN12 (QFN, 12-Leads, Body 1.70x2.00mm, Pitch 0.40mm, IPC High Density)
pins: 1 P0, 2 P1, 3 P2, 4 P3, 5 VSS, 6 P4, 7 P5, 8 P6, 9 P7, 10 SCL, 11 SDA, 12 VDD

## PCB Touch
designator J?
PCB Touch PAD
footprint Touch_PAD
pins: 1 M. Contact

## PROGRAMMING PADS
designator J?, comment CPU Prog. PADs  (no BOM)
CPU Programming PADs; ClassName: TP
footprint PAD PROGRAMMING (Programming Points)
pins: 1 VTARG, 2 GND, 3 XRES, 4 SCLK, 5 SDAT

## RM25C128C-LMAI-T
designator U?
EEPROM Non-volatile Serial SPI bus; Manufacturer: Adesto Technologies; Voltage - Supply: 1.65 V ~ 3.6 V; Clock Frequency: 10MHz; Supplier 1: Digi-Key; Supplier Part Number 1: 1265-1205-1-ND; ComponentLink1URL: http://www.adestotech.com/wp-content/uploads/DS-RM25C128C-L-077.pdf; ComponentLink1Description: Datasheet; Manufacturer Part Number: RM25C128C-LMAI-T; PackageReference: 8-UFDFN Exposed Pad; Memory Interface: SPI; Memory Forma: EEPROM; Memory Type: Non-Volatile; Digi-Key Part Number: 1265-1205-1-ND
footprint RM25C128C-LMAI-T (IC EEPROM 128KBIT 10MHZ 8DFN)
pins: 1 nCS, 2 SDO, 3 nWP, 4 GND, 5 SDI, 6 SCK, 7 nHOLD, 8 VCC

## RZR040P01TL
designator Q?
P-Channel 12V 4A (Ta) 1W (Ta); Manufacturer: Rohm Semiconductor; Manufacturer Part Number: RZR040P01TL; Current - Continuous Drain (Id): 4A (Ta); Rds On (Max): 30 mOhm; Digi-Key Part Number: RZR040P01TLCT-ND; FET Type: P-Channel; PackageReference: SC-96
footprint SOT-346T-RZR040P01TL (SOTFL, 3-Leads, Body 2.90x2.80mm, Pitch 0.95mm, IPC Medium Density)
pins: 1 G, 2 S, 3 D

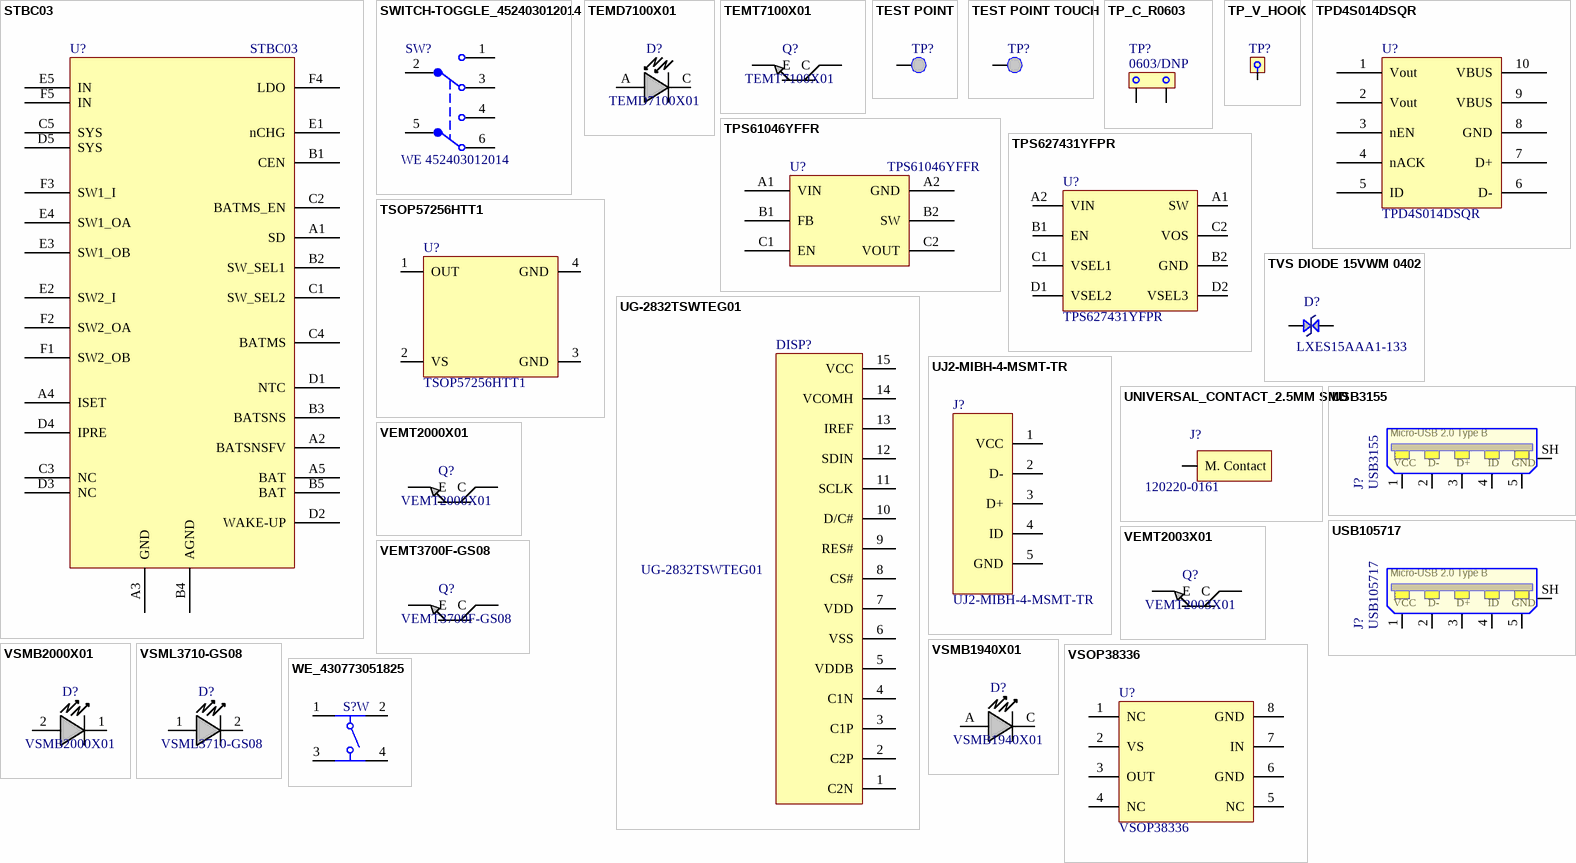
[diagram p2: symbols STBC03 to WE_430773051825]

## STBC03
designator U?
Li-Ion linear battery charger; Manufacturer Part Number: STBC03JR; Manufacturer: STMicroelectronics; Battery Chemistry: Lithium-Ion/Polymer; Battery Pack Voltag: 4.2V; Voltage - Supply (Max): 5.4V; Charge Current - Max: 650mA; ComponentLink1URL: http://www.st.com/content/ccc/resource/technical/document/datasheet/group3/05/ea/e8/4e/a7/a6/4a/c6/DM00338132/files/DM00338132.pdf/jcr:content/translations/en.DM00338132.pdf; ComponentLink1Description: Datasheet; PackageReference: 30-UFBGA, FCBGA; Digi-Key Part Number: 497-17241-1-ND
footprint STBC03 (Li-Ion linear battery charger with LDO and load switches)
pins: A1 SD, A2 BATSNSFV, A3 GND, A4 ISET, A5 BAT, B1 CEN, B2 SW_SEL1, B3 BATSNS, B4 AGND, B5 BAT, C1 SW_SEL2, C2 BATMS_EN, C3 NC, C4 BATMS, C5 SYS, D1 NTC, D2 WAKE-UP, D3 NC, D4 IPRE, D5 SYS, E1 nCHG, E2 SW2_I, E3 SW1_OB, E4 SW1_OA, E5 IN, F1 SW2_OB, F2 SW2_OA, F3 SW1_I, F4 LDO, F5 IN

## SWITCH-TOGGLE_452403012014
designator SW?, comment WE 452403012014
WS-SLSV 7.65x5.5 mm SMD Vertical; ComponentLink1Description: Manufacturer; ComponentLink1URL: http://www.we-online.de; ComponentLink2Description: Datasheet; ComponentLink2URL: http://katalog.we-online.de/em/datasheet/452403012014.pdf; Part Number: 452403012014; Published Date: June 2017; Publisher: Wurth Elektronik
footprint WE452403012014 (WS-SLSV Slide Switch, SMD version, same side connection)
pins: 1, 2 COM, 3, 4, 5 COM, 6

## TEMD7100X01
designator D?
PHOTODIODE PIN 950NM 0805; Manufacturer: Vishay Semiconductor Opto Division; Type: Infrared (IR); Current - Dark (Typ): 1nA; Response Time: 100ns; Voltage - DC Reverse (Vr) (Max): 60V; Viewing Angle: 120°; Supplier 1: Digi-Key; Supplier Part Number 1: 754-1433-1-ND; Manufacturer Part Number: TEMD7100X01; PackageReference: 0805; Wavelength: 950nm; Mounting Type: Surface Mount; Operating Temperature: -40°C ~ 100°C; ComponentLink1Description: Datasheet; ComponentLink1URL: http://www.vishay.com/docs/81960/temd7100.pdf; Digi-Key Part Number: TEMD7100X01CT-ND
footprint TEMD7100X01 (Silicon PIN Photodiode, 2-Leads, Body 2.00x1.25mm, IPC High Density)
pins: A "Anode", C "Cathode"

## TEMT7100X01
designator Q?
PHOTOTRANSISTOR 870NM 0805 SMD; Manufacturer: Vishay Semiconductor Opto Division; Voltage - Collector Emitter Breakdown (Max): 20V; Current - Collector (Ic) (Max): 20mA; Current - Dark (Id) (Max): 100µA; Power - Max: 100mW; ComponentLink1Description: Datasheet; ComponentLink1URL: http://www.vishay.com/docs/81770/temt7100.pdf; Manufacturer Part Number: TEMT7100X01; PackageReference: 0805; Digi-Key Part Number: TEMT7100X01CT-ND; Operating Temperature: -40°C ~ 100°C (TA); Wavelength: 870nm
footprint TEMT7100X01 (Silicon Phototransistor in 0805 Package, 2-Leads, Body 2.00x1.25mm, IPC High Density)
pins: C "Collector", E "Emitter"

## TEST POINT
designator TP?  (value not drawn)  (no BOM)
Testing Poiny; ClassName: TP
footprint PAD TEST POINT (Testing Point)
pins: 1 Test Point

## TEST POINT TOUCH
designator TP?, comment TEST TOUCH PAD  (value not drawn)  (no BOM)
Testing Point
footprint PAD TOUCH (Testing Point)
pins: 1 Test Point

## TP_C_R0603
designator TP?, comment 0603/DNP  (no BOM)
Test point for Med Current 0402 JUMPER SMD O OHM 1% 1/4W 0603; ClassName: TP
footprint TESTPOINT_C_R0608 (Testpoint current)
pins: 1 (power), 2 (power)

## TP_V_HOOK
designator TP?
Black PC Test Point; Manufacturer: Keystone Electronics; Manufacturer Part Number: 5001; Digi-Key Part Number: 36-5001-ND
footprint Testpoint_Hook (Testpoints)
pins: 1 8

## TPD4S014DSQR
designator U?
USB Charger Port Protection; Manufacturer: Texas Instruments; Supplier 1: Digi-Key; Supplier Part Number 1: 296-29093-1-ND; ComponentLink1URL: http://www.ti.com/lit/ds/symlink/tpd4s014.pdf; ComponentLink1Description: Datasheet; Manufacturer Part Number: TPD4S014DSQR; PackageReference: 10-WFDFN Exposed Pad; Type: Overvoltage Protection Controller; Digi-Key Part Number: 296-29093-1-ND
footprint TPD4S014DSQR (IC USB PORT PROTECTION 10SON)
pins: 1 Vout, 2 Vout, 3 nEN, 4 nACK, 5 ID, 6 D-, 7 D+, 8 GND, 9 VBUS, 10 VBUS

## TPS61046YFFR
designator U?
Boost converter 28V; Manufacturer: Texas Instruments; Voltage - Supply (Min): 1.8V; Voltage - Supply (Max): 5.5V; Voltage - Output: 4.5 V ~ 28 V; Current - Output / Channe: 1.2A (Switch); Frequency: 1.05MHz; Supplier 1: Digi-Key; Supplier Part Number 1: 296-44337-1-ND; ComponentLink1URL: http://www.ti.com/lit/ds/symlink/tps61046.pdf; ComponentLink1Description: Datasheet; Manufacturer Part Number: TPS61046YFFR; PackageReference: 6-UFBGA, DSBGA; Digi-Key Part Number: 296-44337-1-ND
footprint TPS61046YFFR (IC LED DRVR RGLTR DIM)
pins: A1 VIN, A2 GND, B1 FB, B2 SW, C1 EN, C2 VOUT

## TPS627431YFPR
designator U?  (graphical)
Buck Converter; Manufacturer: Texas Instruments; Output Configuration: Positive; Function: Step-Down; Voltage - Input (Min): 2.15V; Voltage - Input (Max): 5.5V; Voltage - Output (Min/Fixed): 1.3V; Voltage - Output (Max): 3.1V; Current - Output: 400mA; Frequency - Switching: 1.2MHz; Synchronous Rectifier: Yes; ComponentLink1URL: http://www.ti.com/lit/ds/symlink/tps62743.pdf; ComponentLink1Description: Datasheet; Manufacturer Part Number: TPS627431YFPR; PackageReference: 8-XFBGA, DSBGA; Digi-Key Part Number: 296-44499-2-ND
footprint TPS627431YFPR (High Efficiency Buck Converter with Ultra-low)
pins: A1 SW, A2 VIN, B1 EN, B2 GND, C1 VSEL1, C2 VOS, D1 VSEL2, D2 VSEL3

## TSOP57256HTT1
designator U?
MOD IR RCVR 56KHZ TOP VIEW SHIEL; Manufacturer: Vishay Semiconductor Opto Division; Voltage Supply: 2.5V ~ 5.5V; Current Supply: 700µA; B.P.F. Center Frequency: 56.0kHz; Sensing Distance: 40m; ComponentLink1URL: http://www.vishay.com/docs/82434/tsop572.pdf; ComponentLink1Description: Datasheet; Manufacturer Part Number: TSOP57256HTT1; Digi-Key Part Number: TSOP57256HTT1-ND
footprint TSOP57256HTT1 (IR Receiver Modules ,SON, 4-Leads, Body 3.95x3.95mm, Pitch 3.00mm, IPC High Density)
pins: 1 OUT (power), 2 VS, 3 GND, 4 GND

## TVS DIODE 15VWM 0402
designator D?, comment LXES15AAA1-133
TVS DIODE 15VWM 0402; Manufacturer: Murata Electronics North America; Type: Zener; Capacitance @ Frequency: 0.05pF @ 1MHz; Voltage - Reverse Standoff (Typ): 15V; Manufacturer Part Number: LXES15AAA1-133; Digi-Key Part Number: 490-13209-1-ND; PackageReference: 0402
footprint 0402C-GENERIC (Chip Capacitor, 2-Leads, Body 1.00x0.50mm, IPC Medium Density)
pins: 1, 2

## UG-2832TSWTEG01
designator DISP?  (no BOM)
Connection to OLED Display
footprint UG-2832TSWTEG01_B (OLED Display)
pins: 1 C2N, 2 C2P, 3 C1P, 4 C1N, 5 VDDB, 6 VSS, 7 VDD (power), 8 CS#, 9 RES#, 10 D/C#, 11 SCLK, 12 SDIN, 13 IREF, 14 VCOMH, 15 VCC (power)

## UJ2-MIBH-4-MSMT-TR
designator J?
USB Micro B; Manufacturer: CUI Inc.; Specifications: USB 2.0; Current Rating: 0.5A, 1.8A; Voltage - Rated: 30VAC; Shielding: Shielded; Number of Contacts: 5; Gender: Receptacle; ComponentLink1URL: http://www.cui.com/product/resource/uj2-mibh-4-msmt.pdf; ComponentLink1Description: Datasheet; Manufacturer Part Number: UJ2-MIBH-4-MSMT-TR; Type: USB - micro B; Digi-Key Part Number: 102-4008-1-ND; Contact Finish: Gold; ClassName: 3D_EXPORT
footprint UJ2-MIBH-4-MSMT-TR (USB Connector)
pins: 1 VCC, 2 D-, 3 D+, 4 ID, 5 GND

## UNIVERSAL_CONTACT_2.5MM SMD
designator J?, comment 120220-0161
UNIVERSAL CONTACT 2.5MM SMD; Manufacturer: ITT Cannon, LLC; ComponentLink1URL: https://media.digikey.com/pdf/Data%20Sheets/ITT%20PDFs/Universal_Contact%202.5mm.pdf; ComponentLink1Description: Datasheet; Manufacturer Part Number: 120220-0161; Mounting Type: Surface Mount; Digi-Key Part Number: 1003-1009-1-ND; ClassName: 3D_EXPORT
footprint PAD 1.0x3.76mm (UNIVERSAL CONTACT 2.5MM SMD)
pins: 1 M. Contact

## USB3155
designator J?
CONN RCPT USB-mini B 2.0 5POS SLD; Manufacturer: GCT (GLOBAL CONNECTOR TECHNOLOGY); Manufacturer Part Number: USB3155-30-A; Connector Type: USB - micro B; ComponentLink1Description: Datasheet; ComponentLink1URL: https://gct.co/files/drawings/usb3155.pdf; Digi-Key Part Number: 2537026-Farnell; ClassName: 3D_EXPORT; ComponentLink2Description: Product Specification; ComponentLink2URL: https://gct.co/files/specs/usb3155-spec.pdf
footprint USB3155 (USB Connector)
pins: 1 VCC, 2 D-, 3 D+, 4 ID, 5 GND, SH Shell
text: Micro-USB 2.0 Type B

## USB105717
designator J?
CONN RCPT USB-micro; Manufacturer: Molex; Manufacturer Part Number: 105017
footprint UUSB_MOLEX105017 (Micro-USB Molex 105017-0001 B Receptacle, Solder Tab, Lead-Free)
pins: 1 VCC, 2 D-, 3 D+, 4 ID, 5 GND, SH Shell
text: Micro-USB 2.0 Type B

## VEMT2000X01
designator Q?
PHOTOTRANSISTOR NPN REV GULLWING; Manufacturer: Vishay Semiconductor Opto Division; Voltage - Collector Emitter Breakdown (Max): 20V; Current - Collector (Ic) (Max): 50mA; Current - Dark (Id) (Max): 100nA; Power - Max: 100mW; Wavelength: 860nm; Viewing Angle: 30°; ComponentLink1Description: Datasheet; ComponentLink1URL: http://www.vishay.com/docs/81595/vemt2000.pdf; Manufacturer Part Number: VEMT2000X01; PackageReference: 2-SMD, Z-Bend; Digi-Key Part Number: VEMT2000X01CT-ND; Operating Temperature: -40°C ~ 100°C (TA)
footprint SODFL580X160 (SODFL, 2-Leads, Body 2.20x5.80mm, IPC High Density)
pins: 1 C "Collector", 2 E "Emitter"

## VEMT2003X01
designator Q?
NPN PHOTO TRANSISTOR SMD REV. GU; Manufacturer: Vishay Semiconductor Opto Division; Voltage - Collector Emitter Breakdown (Max): 20V; Current - Collector (Ic) (Max): 50mA; Current - Dark (Id) (Max): 1nA; Power - Max: 100mW; Wavelength: 860nm; Viewing Angle: 70°; ComponentLink1Description: Datasheet; ComponentLink1URL: http://www.vishay.com/docs/84162/vemt2003x01.pdf; Manufacturer Part Number: VEMT2003X01; PackageReference: 2-SMD, Z-Bend; Digi-Key Part Number: VEMT2003X01CT-ND; Operating Temperature: -40°C ~ 100°C (TA)
footprint VEMT2003X01 (Silicon NPN Phototransistor, SODFL, 2-Leads, Body 2.30x5.80mm, IPC High Density)
pins: C "Collector", E "Emitter"

## VEMT3700F-GS08
designator Q?
PHOTO TRANS. SMD PLCC2; Manufacturer: Vishay Semiconductor Opto Division; Voltage - Collector Emitter Breakdown (Max): 70V; Current - Collector (Ic) (Max): 50mA; Current - Dark (Id) (Max): 200nA; Power - Max: 100mW; Wavelength: 940nm; Viewing Angle: 120°; ComponentLink1Description: Datasheet; ComponentLink1URL: http://www.vishay.com/docs/81584/vemt3700.pdf; Manufacturer Part Number: VEMT3700F-GS08; PackageReference: 2-LCC (J-Lead); Digi-Key Part Number: VEMT3700F-GS08CT-ND; Operating Temperature: -40°C ~ 100°C (TA)
footprint VEMT3700F-GS08 (Silicon NPN Phototransistor, 2-Leads, Body 3.50x2.80mm, IPC High Density)
pins: C "Collector", E "Emitter"

## VSMB1940X01
designator D?
EMITTER IR 940NM 100MA 0805; Manufacturer: Vishay Semiconductor Opto Division; Type: Infrared (IR); Radiant Intensity (Ie) Min @ If: 3mW/sr @ 100mA; Voltage - Forward (Vf) (Typ): 1.35V; Viewing Angle: 120°; Manufacturer Part Number: VSMB1940X01; PackageReference: 0805; Wavelength: 940nm; Current - DC Forward (If) (Max): 100mA; Mounting Type: Surface Mount; Operating Temperature: -40°C ~ 85°C (TA); ComponentLink1Description: Datasheet; ComponentLink1URL: http://www.vishay.com/docs/81933/vsmb1940.pdf; Digi-Key Part Number: VSMB1940X01CT-ND
footprint VSMB1940X01 (High Speed Infrared Emitting Diode, 2-Leads, Body 2.00x1.25mm, IPC High Density)
pins: A "Anode", C "Cathode"

## VSMB2000X01
designator D?
EMITTER IR 940NM 100MA SMD; Manufacturer: Vishay Semiconductor Opto Division; Type: Infrared (IR); Radiant Intensity (Ie) Min @ If: 20mW/sr @ 100mA; Voltage - Forward (Vf) (Typ): 1.35V; Viewing Angle: 24°; Manufacturer Part Number: VSMB2000X01; PackageReference: 2-SMD, Z-Bend; Wavelength: 940nm; Current - DC Forward (If) (Max): 100mA; Mounting Type: Surface Mount; Operating Temperature: -40°C ~ 85°C (TA); ComponentLink1Description: Datasheet; ComponentLink1URL: http://www.vishay.com/docs/81930/vsmb2000.pdf; Digi-Key Part Number: VSMB2000X01CT-ND
footprint SODFL580X160 (SODFL, 2-Leads, Body 2.20x5.80mm, IPC High Density)
pins: 1 C "Cathode", 2 A "Anode"

## VSML3710-GS08
designator D?
EMITTER IR 940NM 100MA PLCC; Manufacturer: Vishay Semiconductor Opto Division; Type: Infrared (IR); Radiant Intensity (Ie) Min @ If: 4mW/sr @ 100mA; Voltage - Forward (Vf) (Typ): 1.35V; Viewing Angle: 120°; Manufacturer Part Number: VSML3710-GS08; PackageReference: 2-PLCC; Wavelength: 940nm; Current - DC Forward (If) (Max): 100mA; Mounting Type: Surface Mount; Operating Temperature: -40°C ~ 85°C (TA); ComponentLink1Description: Datasheet; ComponentLink1URL: http://www.vishay.com/docs/81300/vsml3710.pdf; Digi-Key Part Number: 751-1257-1-ND
footprint VSML3710-GS08 (High Power Infrared Emitting Diode, 2-Leads, Body 3.50x2.80mm, IPC High Density)
pins: 1 A "Anode", 2 C "Cathode"

## VSOP38336
designator U?
IC SIGNAL CONDITIONING 36KHZ QFN; Manufacturer: Vishay Semiconductor Opto Division; Voltage - Supply: 2.5V ~ 5.5V; Current - Supply: 350µA; ComponentLink1URL: http://www.vishay.com/docs/82443/vsop383.pdf; ComponentLink1Description: Datasheet; Manufacturer Part Number: VSOP38336; PackageReference: 8-XFBGA, DSBGA; Digi-Key Part Number: VSOP38336CT-ND; B.P.F. Center Frequency: 36KHz
footprint VSOP38336 (SON, 8-Leads, Body 2.00x2.00mm, Pitch 0.50mm, Thermal Pad 1.60x0.69mm, IPC High Density)
pins: 1 NC, 2 VS, 3 OUT, 4 NC, 5 NC, 6 GND, 7 IN, 8 GND

## WE_430773051825
designator S?W, comment WE 430773051825  (value not drawn)
WS-TASV 6x6mm J-Hook Hermetic Tact Switch, SMD version; Manufacturer: Wurth Elektronik; Operation Force: 250g; ComponentLink1Description: Manufacturer; ComponentLink1URL: http://www.we-online.de; ComponentLink2Description: Datasheet; ComponentLink2URL: http://katalog.we-online.de/em/datasheet/430773051825.pdf; Manufacturer Part Number: 430773051825; Published Date: June 2017; Life Cycle: 500000 cycles; Size: 6x6x5.1 mm
footprint 4307x30518xx_6x6x5.1 (6x6 mm J-Hook SMD Hermetic Tact Switch)
pins: 1, 2, 3, 4